# Altium schematic symbol library 150BCAntenna.SchLib: 1 symbol
Pins are listed as number, name and electrical type; pins without a type are passive.

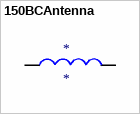
[diagram p0: symbol 150BCAntenna]

## 150BCAntenna
designator *
pins: 1, 2